# EAGLE library part DSPIC33EP512MC502-28SSOP (library DSPIC33)
DSPIC33EP512MC502
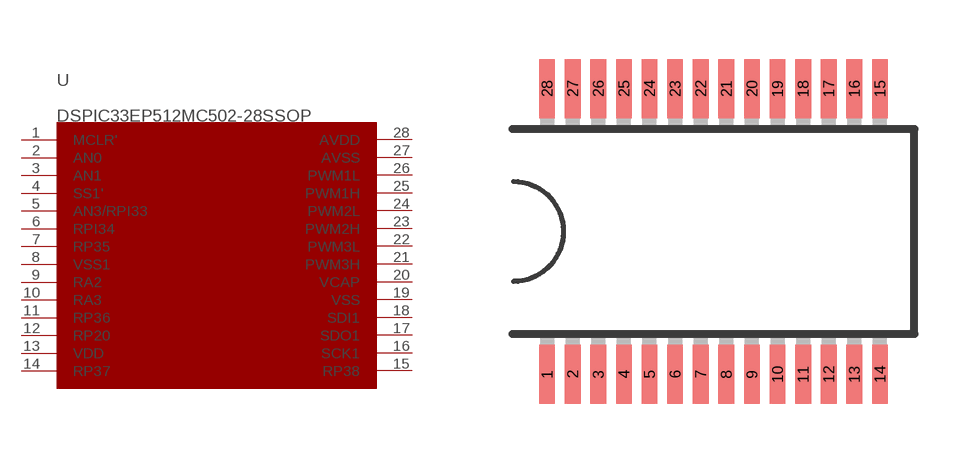
[diagram p0: symbol with the pads of SSOP28; footprint SSOP28]

Designator prefix -

## DSPIC33EP512MC502-28SSOP  [SSOP28]
1  MCLR'
2  AN0
3  AN1
4  SS1'
5  AN3/RPI33
6  RPI34
7  RP35
8  VSS1
9  RA2
10  RA3
11  RP36
12  RP20
13  VDD
14  RP37
15  RP38
16  SCK1
17  SDO1
18  SDI1
19  VSS
20  VCAP
21  PWM3H
22  PWM3L
23  PWM2H
24  PWM2L
25  PWM1H
26  PWM1L
27  AVSS
28  AVDD

## Footprint SSOP28 (pad centres in mm)
Shrink Small Outline Package package type SS
smd 0.4 x 1.5: 1 -4.225,-3.625; 2 -3.575,-3.625; 3 -2.925,-3.625; 4 -2.275,-3.625; 5 -1.625,-3.625; 6 -0.975,-3.625; 7 -0.325,-3.625; 8 0.325,-3.625; 9 0.975,-3.625; 10 1.625,-3.625; 11 2.275,-3.625; 12 2.925,-3.625; 13 3.575,-3.625; 14 4.225,-3.625; 15 4.225,3.625; 16 3.575,3.625; 17 2.925,3.625; 18 2.275,3.625; 19 1.625,3.625; 20 0.975,3.625; 21 0.325,3.625; 22 -0.325,3.625; 23 -0.975,3.625; 24 -1.625,3.625; 25 -2.275,3.625; 26 -2.925,3.625; 27 -3.575,3.625; 28 -4.225,3.625